# Altium schematic symbol library TI Power Management DC-DC Controller (External Switch).SchLib: 349 symbols (part 2 of 26)
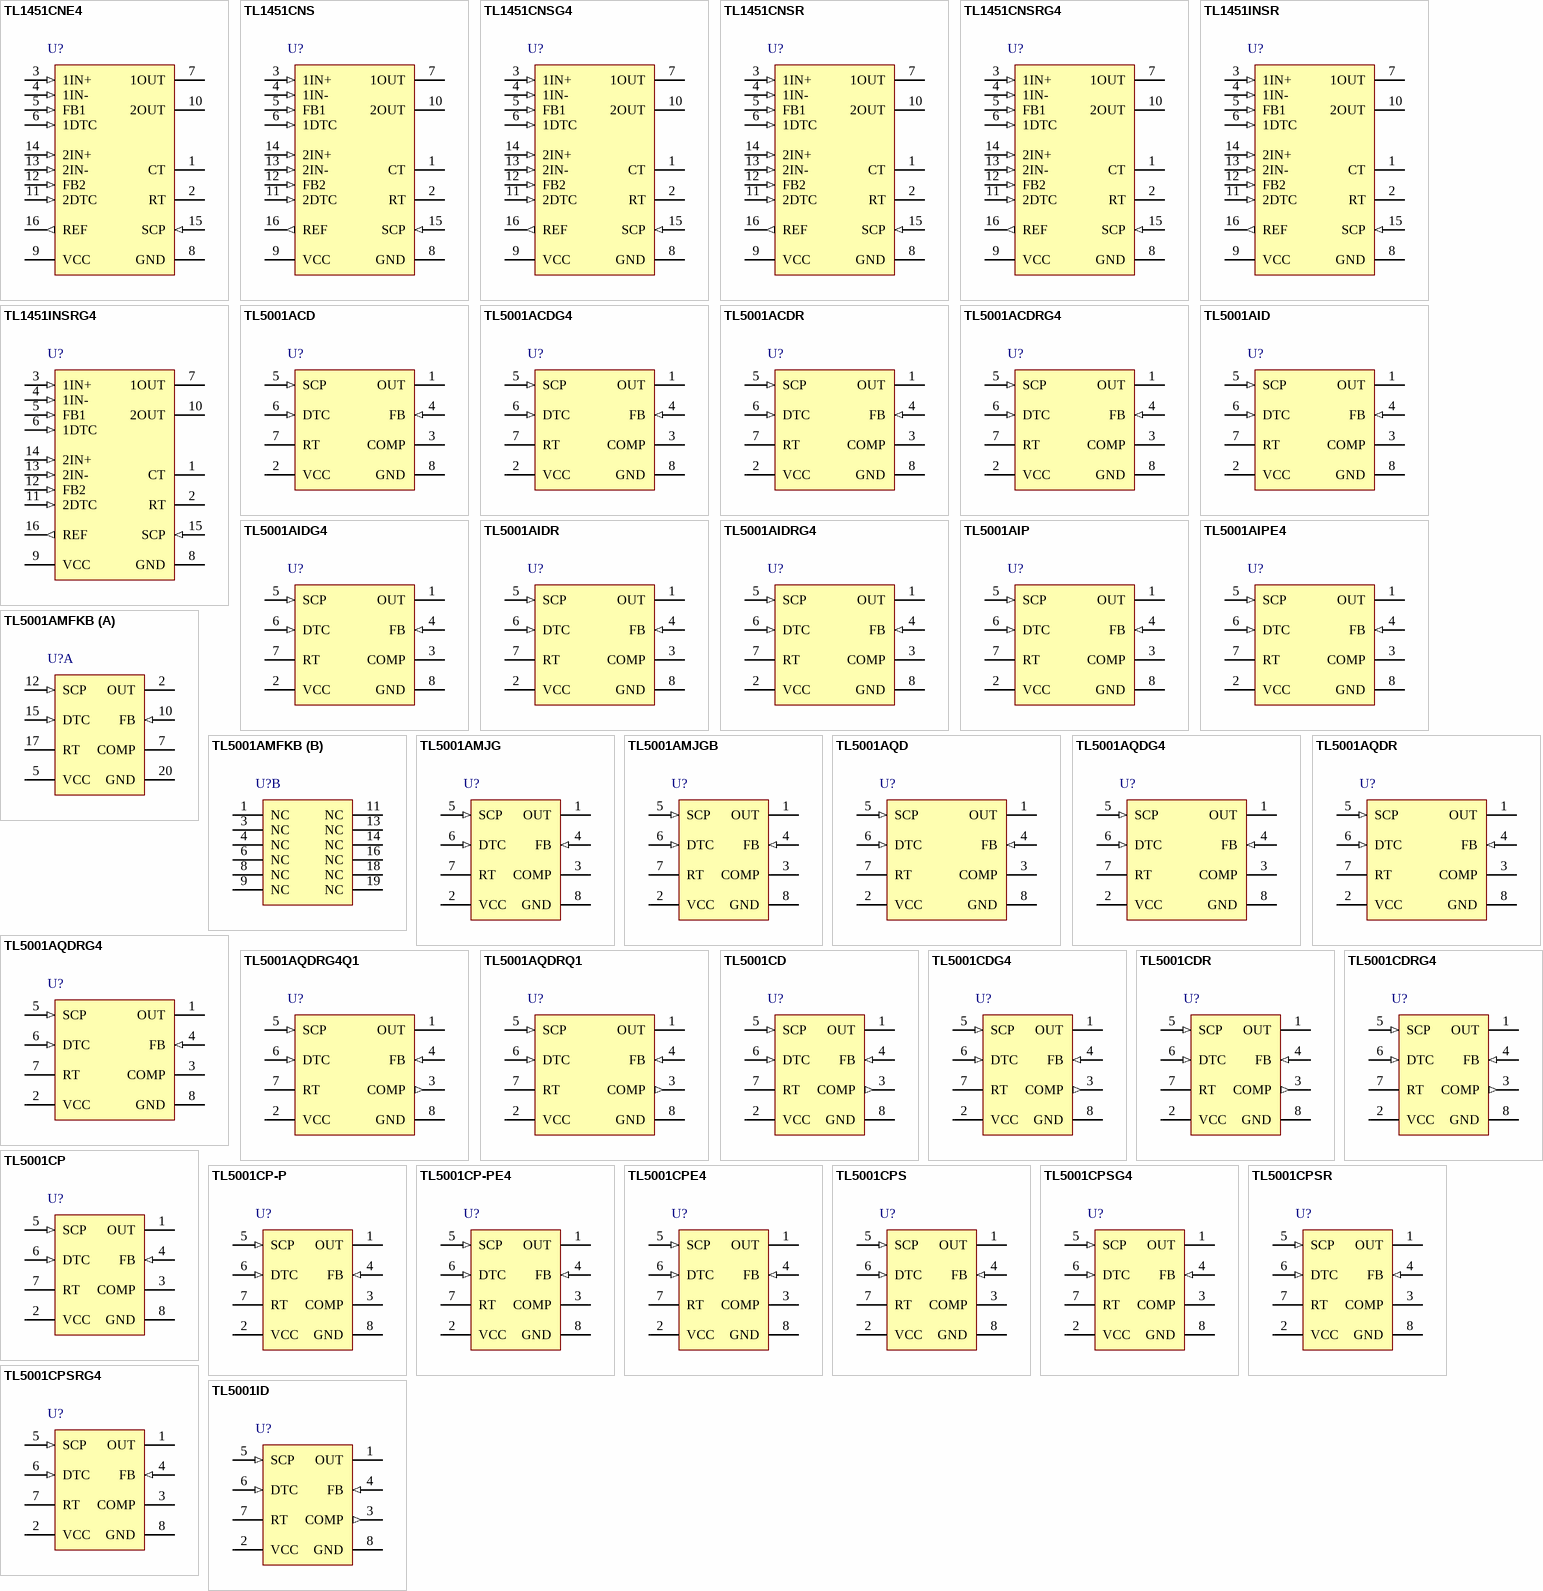
[diagram p15: symbols TL1451CNE4 to TL5001ID]

## TL1451INSR
designator U?
Dual Pulse-Width-Modulation Control Circuit, 16-pin SO (NS), Green (RoHS & no Sb/Br); Manufacturer: Texas Instruments; PartNumber: TL1451INSR; SubFamily: Multiple-Output Switching Controller; DatasheetVersion: SLVS024E; PackageVersion: revC, Mar-2003; PackageReference: NS16; PackageDescription: 16-Pin Plastic Small Outline Package, 10.2 x 5.3 mm, Pitch 1.27 mm Pitch; Supplier 1: Digi-Key; Supplier Part Number 1: TL1451INSR-ND; Eco-Plan: Green (RoHS & no Sb/Br); Mounting Technology: Surface Mount; ComponentLink1Description: Datasheet; ComponentLink1URL: http://www.ti.com/general/docs/lit/getliterature.tsp?genericPartNumber=TL1451&fileType=pdf; ComponentLink2Description: Package Specification; ComponentLink2URL: http://www.ti.com/litv/pdf/msop002a
footprint NS16_N (SOP, 16-Leads, Body 10.2x5.3mm, Pitch 1.27mm, IPC Medium Density)
footprint NS16_L (SOP, 16-Leads, Body 10.2x5.3mm, Pitch 1.27mm, IPC High Density)
footprint NS16_M (SOP, 16-Leads, Body 10.2x5.3mm, Pitch 1.27mm, IPC Low Density)
pins: 1 CT, 2 RT, 3 1IN+ (in), 4 1IN- (in), 5 FB1 (in), 6 1DTC (in), 7 1OUT (oc), 8 GND (power), 9 VCC (power), 10 2OUT (oc), 11 2DTC (in), 12 FB2 (in), 13 2IN- (in), 14 2IN+ (in), 15 SCP (in), 16 REF (out)

## TL1451INSRG4
designator U?
Dual Pulse-Width-Modulation Control Circuit, 16-pin SO (NS), Green (RoHS & no Sb/Br); Manufacturer: Texas Instruments; PartNumber: TL1451INSRG4; SubFamily: Multiple-Output Switching Controller; DatasheetVersion: SLVS024E; PackageVersion: revC, Mar-2003; PackageReference: NS16; PackageDescription: 16-Pin Plastic Small Outline Package, 10.2 x 5.3 mm, Pitch 1.27 mm Pitch; Supplier 1: Digi-Key; Supplier Part Number 1: TL1451INSRG4-ND; Eco-Plan: Green (RoHS & no Sb/Br); Mounting Technology: Surface Mount; ComponentLink1Description: Datasheet; ComponentLink1URL: http://www.ti.com/general/docs/lit/getliterature.tsp?genericPartNumber=TL1451&fileType=pdf; ComponentLink2Description: Package Specification; ComponentLink2URL: http://www.ti.com/litv/pdf/msop002a
footprint NS16_N (SOP, 16-Leads, Body 10.2x5.3mm, Pitch 1.27mm, IPC Medium Density)
footprint NS16_L (SOP, 16-Leads, Body 10.2x5.3mm, Pitch 1.27mm, IPC High Density)
footprint NS16_M (SOP, 16-Leads, Body 10.2x5.3mm, Pitch 1.27mm, IPC Low Density)
pins: 1 CT, 2 RT, 3 1IN+ (in), 4 1IN- (in), 5 FB1 (in), 6 1DTC (in), 7 1OUT (oc), 8 GND (power), 9 VCC (power), 10 2OUT (oc), 11 2DTC (in), 12 FB2 (in), 13 2IN- (in), 14 2IN+ (in), 15 SCP (in), 16 REF (out)

## TL5001ACD
designator U?
PWM Controller with Wide Input Voltage Range, 100 % Duty Cycle, 3.6 to 40 V, -20 to 85 degC, 8-pin SOIC (D), Green (RoHS & no Sb/Br); Manufacturer: Texas Instruments; PartNumber: TL5001ACD; Duty Cycle(Max)(%): 100; Iout(Max)(A): 3; Regulated Outputs(#): 1; SubFamily: Buck-Boost, Inverting Switching Controller; Switching Frequency(Max)(kHz): 400; Synchronous Rectification: TRUE; Topology: Buck, Boost, Flyback"; Vin(Max)(V): 40; Vin(Min)(V): 3.6; Vout(Max)(V): 50; DatasheetVersion: SLVS084F; PackageVersion: revM, Jun-2011; PackageReference: D8; PackageDescription: 8-Pin Plastic Small Outline Integrated Circuit, 4.9 x 3.9 mm, Pitch 1.27 mm Pitch; Supplier 1: Digi-Key; Supplier Part Number 1: 296-2472-5-ND; Eco-Plan: Green (RoHS & no Sb/Br); Vout(Min)(V): 1; Mounting Technology: Surface Mount; Code_JEDEC: MS-012AA; ComponentLink1Description: Datasheet; ComponentLink1URL: http://www.ti.com/general/docs/lit/getliterature.tsp?genericPartNumber=TL5001A&fileType=pdf; ComponentLink2Description: Package Specification; ComponentLink2URL: http://www.ti.com/litv/pdf/msoi002j
footprint D8_N (SOIC, 8-Leads, Body 4.9x3.9mm, Pitch 1.27mm, IPC Medium Density)
footprint D8_L (SOIC, 8-Leads, Body 4.9x3.9mm, Pitch 1.27mm, IPC High Density)
footprint D8_M (SOIC, 8-Leads, Body 4.9x3.9mm, Pitch 1.27mm, IPC Low Density)
pins: 1 OUT (oc), 2 VCC (power), 3 COMP, 4 FB (in), 5 SCP (in), 6 DTC (in), 7 RT, 8 GND (power)

## TL5001ACDG4
designator U?
PWM Controller with Wide Input Voltage Range, 100 % Duty Cycle, 3.6 to 40 V, -20 to 85 degC, 8-pin SOIC (D), Green (RoHS & no Sb/Br); Manufacturer: Texas Instruments; PartNumber: TL5001ACDG4; Duty Cycle(Max)(%): 100; Iout(Max)(A): 3; Regulated Outputs(#): 1; SubFamily: Buck-Boost, Inverting Switching Controller; Switching Frequency(Max)(kHz): 400; Synchronous Rectification: TRUE; Topology: Buck, Boost, Flyback"; Vin(Max)(V): 40; Vin(Min)(V): 3.6; Vout(Max)(V): 50; DatasheetVersion: SLVS084F; PackageVersion: revM, Jun-2011; PackageReference: D8; PackageDescription: 8-Pin Plastic Small Outline Integrated Circuit, 4.9 x 3.9 mm, Pitch 1.27 mm Pitch; Supplier 1: Digi-Key; Supplier Part Number 1: TL5001ACDG4-ND; Eco-Plan: Green (RoHS & no Sb/Br); Vout(Min)(V): 1; Mounting Technology: Surface Mount; Code_JEDEC: MS-012AA; ComponentLink1Description: Datasheet; ComponentLink1URL: http://www.ti.com/general/docs/lit/getliterature.tsp?genericPartNumber=TL5001A&fileType=pdf; ComponentLink2Description: Package Specification; ComponentLink2URL: http://www.ti.com/litv/pdf/msoi002j
footprint D8_N (SOIC, 8-Leads, Body 4.9x3.9mm, Pitch 1.27mm, IPC Medium Density)
footprint D8_L (SOIC, 8-Leads, Body 4.9x3.9mm, Pitch 1.27mm, IPC High Density)
footprint D8_M (SOIC, 8-Leads, Body 4.9x3.9mm, Pitch 1.27mm, IPC Low Density)
pins: 1 OUT (oc), 2 VCC (power), 3 COMP, 4 FB (in), 5 SCP (in), 6 DTC (in), 7 RT, 8 GND (power)

## TL5001ACDR
designator U?
PWM Controller with Wide Input Voltage Range, 100 % Duty Cycle, 3.6 to 40 V, -20 to 85 degC, 8-pin SOIC (D), Green (RoHS & no Sb/Br); Manufacturer: Texas Instruments; PartNumber: TL5001ACDR; Duty Cycle(Max)(%): 100; Iout(Max)(A): 3; Regulated Outputs(#): 1; SubFamily: Buck-Boost, Inverting Switching Controller; Switching Frequency(Max)(kHz): 400; Synchronous Rectification: TRUE; Topology: Buck, Boost, Flyback"; Vin(Max)(V): 40; Vin(Min)(V): 3.6; Vout(Max)(V): 50; DatasheetVersion: SLVS084F; PackageVersion: revM, Jun-2011; PackageReference: D8; PackageDescription: 8-Pin Plastic Small Outline Integrated Circuit, 4.9 x 3.9 mm, Pitch 1.27 mm Pitch; Supplier 1: Digi-Key; Supplier Part Number 1: 296-2472-2-ND; Eco-Plan: Green (RoHS & no Sb/Br); Vout(Min)(V): 1; Mounting Technology: Surface Mount; Code_JEDEC: MS-012AA; ComponentLink1Description: Datasheet; ComponentLink1URL: http://www.ti.com/general/docs/lit/getliterature.tsp?genericPartNumber=TL5001A&fileType=pdf; ComponentLink2Description: Package Specification; ComponentLink2URL: http://www.ti.com/litv/pdf/msoi002j
footprint D8_N (SOIC, 8-Leads, Body 4.9x3.9mm, Pitch 1.27mm, IPC Medium Density)
footprint D8_L (SOIC, 8-Leads, Body 4.9x3.9mm, Pitch 1.27mm, IPC High Density)
footprint D8_M (SOIC, 8-Leads, Body 4.9x3.9mm, Pitch 1.27mm, IPC Low Density)
pins: 1 OUT (oc), 2 VCC (power), 3 COMP, 4 FB (in), 5 SCP (in), 6 DTC (in), 7 RT, 8 GND (power)

## TL5001ACDRG4
designator U?
PWM Controller with Wide Input Voltage Range, 100 % Duty Cycle, 3.6 to 40 V, -20 to 85 degC, 8-pin SOIC (D), Green (RoHS & no Sb/Br); Manufacturer: Texas Instruments; PartNumber: TL5001ACDRG4; Duty Cycle(Max)(%): 100; Iout(Max)(A): 3; Regulated Outputs(#): 1; SubFamily: Buck-Boost, Inverting Switching Controller; Switching Frequency(Max)(kHz): 400; Synchronous Rectification: TRUE; Topology: Buck, Boost, Flyback"; Vin(Max)(V): 40; Vin(Min)(V): 3.6; Vout(Max)(V): 50; DatasheetVersion: SLVS084F; PackageVersion: revM, Jun-2011; PackageReference: D8; PackageDescription: 8-Pin Plastic Small Outline Integrated Circuit, 4.9 x 3.9 mm, Pitch 1.27 mm Pitch; Supplier 1: Digi-Key; Supplier Part Number 1: TL5001ACDRG4-ND; Eco-Plan: Green (RoHS & no Sb/Br); Vout(Min)(V): 1; Mounting Technology: Surface Mount; Code_JEDEC: MS-012AA; ComponentLink1Description: Datasheet; ComponentLink1URL: http://www.ti.com/general/docs/lit/getliterature.tsp?genericPartNumber=TL5001A&fileType=pdf; ComponentLink2Description: Package Specification; ComponentLink2URL: http://www.ti.com/litv/pdf/msoi002j
footprint D8_N (SOIC, 8-Leads, Body 4.9x3.9mm, Pitch 1.27mm, IPC Medium Density)
footprint D8_L (SOIC, 8-Leads, Body 4.9x3.9mm, Pitch 1.27mm, IPC High Density)
footprint D8_M (SOIC, 8-Leads, Body 4.9x3.9mm, Pitch 1.27mm, IPC Low Density)
pins: 1 OUT (oc), 2 VCC (power), 3 COMP, 4 FB (in), 5 SCP (in), 6 DTC (in), 7 RT, 8 GND (power)

## TL5001AID
designator U?
PWM Controller with Wide Input Voltage Range, 100 % Duty Cycle, 3.6 to 40 V, -40 to 85 degC, 8-pin SOIC (D), Green (RoHS & no Sb/Br); Manufacturer: Texas Instruments; PartNumber: TL5001AID; Duty Cycle(Max)(%): 100; Iout(Max)(A): 3; Regulated Outputs(#): 1; SubFamily: Buck-Boost, Inverting Switching Controller; Switching Frequency(Max)(kHz): 400; Synchronous Rectification: TRUE; Topology: Buck, Boost, Flyback; Vin(Max)(V): 40; Vin(Min)(V): 3.6; Vout(Max)(V): 50; DatasheetVersion: SLVS084F; PackageVersion: revM, Jun-2011; PackageReference: D8; PackageDescription: 8-Pin Plastic Small Outline Integrated Circuit, 4.9 x 3.9 mm, Pitch 1.27 mm Pitch; Supplier 1: Digi-Key; Supplier Part Number 1: TL5001AID-ND; Eco-Plan: Green (RoHS & no Sb/Br); Vout(Min)(V): 1; Mounting Technology: Surface Mount; Code_JEDEC: MS-012AA; ComponentLink1Description: Datasheet; ComponentLink1URL: http://www.ti.com/general/docs/lit/getliterature.tsp?genericPartNumber=TL5001A&fileType=pdf; ComponentLink2Description: Package Specification; ComponentLink2URL: http://www.ti.com/litv/pdf/msoi002j
footprint D8_N (SOIC, 8-Leads, Body 4.9x3.9mm, Pitch 1.27mm, IPC Medium Density)
footprint D8_L (SOIC, 8-Leads, Body 4.9x3.9mm, Pitch 1.27mm, IPC High Density)
footprint D8_M (SOIC, 8-Leads, Body 4.9x3.9mm, Pitch 1.27mm, IPC Low Density)
pins: 1 OUT (oc), 2 VCC (power), 3 COMP, 4 FB (in), 5 SCP (in), 6 DTC (in), 7 RT, 8 GND (power)

## TL5001AIDG4
designator U?
PWM Controller with Wide Input Voltage Range, 100 % Duty Cycle, 3.6 to 40 V, -40 to 85 degC, 8-pin SOIC (D), Green (RoHS & no Sb/Br); Manufacturer: Texas Instruments; PartNumber: TL5001AIDG4; Duty Cycle(Max)(%): 100; Iout(Max)(A): 3; Regulated Outputs(#): 1; SubFamily: Buck-Boost, Inverting Switching Controller; Switching Frequency(Max)(kHz): 400; Synchronous Rectification: TRUE; Topology: Buck, Boost, Flyback; Vin(Max)(V): 40; Vin(Min)(V): 3.6; Vout(Max)(V): 50; DatasheetVersion: SLVS084F; PackageVersion: revM, Jun-2011; PackageReference: D8; PackageDescription: 8-Pin Plastic Small Outline Integrated Circuit, 4.9 x 3.9 mm, Pitch 1.27 mm Pitch; Supplier 1: Digi-Key; Supplier Part Number 1: TL5001AIDG4-ND; Eco-Plan: Green (RoHS & no Sb/Br); Vout(Min)(V): 1; Mounting Technology: Surface Mount; Code_JEDEC: MS-012AA; ComponentLink1Description: Datasheet; ComponentLink1URL: http://www.ti.com/general/docs/lit/getliterature.tsp?genericPartNumber=TL5001A&fileType=pdf; ComponentLink2Description: Package Specification; ComponentLink2URL: http://www.ti.com/litv/pdf/msoi002j
footprint D8_N (SOIC, 8-Leads, Body 4.9x3.9mm, Pitch 1.27mm, IPC Medium Density)
footprint D8_L (SOIC, 8-Leads, Body 4.9x3.9mm, Pitch 1.27mm, IPC High Density)
footprint D8_M (SOIC, 8-Leads, Body 4.9x3.9mm, Pitch 1.27mm, IPC Low Density)
pins: 1 OUT (oc), 2 VCC (power), 3 COMP, 4 FB (in), 5 SCP (in), 6 DTC (in), 7 RT, 8 GND (power)

## TL5001AIDR
designator U?
PWM Controller with Wide Input Voltage Range, 100 % Duty Cycle, 3.6 to 40 V, -40 to 85 degC, 8-pin SOIC (D), Green (RoHS & no Sb/Br); Manufacturer: Texas Instruments; PartNumber: TL5001AIDR; Duty Cycle(Max)(%): 100; Iout(Max)(A): 3; Regulated Outputs(#): 1; SubFamily: Buck-Boost, Inverting Switching Controller; Switching Frequency(Max)(kHz): 400; Synchronous Rectification: TRUE; Topology: Buck, Boost, Flyback; Vin(Max)(V): 40; Vin(Min)(V): 3.6; Vout(Max)(V): 50; DatasheetVersion: SLVS084F; PackageVersion: revM, Jun-2011; PackageReference: D8; PackageDescription: 8-Pin Plastic Small Outline Integrated Circuit, 4.9 x 3.9 mm, Pitch 1.27 mm Pitch; Supplier 1: Digi-Key; Supplier Part Number 1: TL5001AIDR-ND; Eco-Plan: Green (RoHS & no Sb/Br); Vout(Min)(V): 1; Mounting Technology: Surface Mount; Code_JEDEC: MS-012AA; ComponentLink1Description: Datasheet; ComponentLink1URL: http://www.ti.com/general/docs/lit/getliterature.tsp?genericPartNumber=TL5001A&fileType=pdf; ComponentLink2Description: Package Specification; ComponentLink2URL: http://www.ti.com/litv/pdf/msoi002j
footprint D8_N (SOIC, 8-Leads, Body 4.9x3.9mm, Pitch 1.27mm, IPC Medium Density)
footprint D8_L (SOIC, 8-Leads, Body 4.9x3.9mm, Pitch 1.27mm, IPC High Density)
footprint D8_M (SOIC, 8-Leads, Body 4.9x3.9mm, Pitch 1.27mm, IPC Low Density)
pins: 1 OUT (oc), 2 VCC (power), 3 COMP, 4 FB (in), 5 SCP (in), 6 DTC (in), 7 RT, 8 GND (power)

## TL5001AIDRG4
designator U?
PWM Controller with Wide Input Voltage Range, 100 % Duty Cycle, 3.6 to 40 V, -40 to 85 degC, 8-pin SOIC (D), Green (RoHS & no Sb/Br); Manufacturer: Texas Instruments; PartNumber: TL5001AIDRG4; Duty Cycle(Max)(%): 100; Iout(Max)(A): 3; Regulated Outputs(#): 1; SubFamily: Buck-Boost, Inverting Switching Controller; Switching Frequency(Max)(kHz): 400; Synchronous Rectification: TRUE; Topology: Buck, Boost, Flyback; Vin(Max)(V): 40; Vin(Min)(V): 3.6; Vout(Max)(V): 50; DatasheetVersion: SLVS084F; PackageVersion: revM, Jun-2011; PackageReference: D8; PackageDescription: 8-Pin Plastic Small Outline Integrated Circuit, 4.9 x 3.9 mm, Pitch 1.27 mm Pitch; Supplier 1: Digi-Key; Supplier Part Number 1: TL5001AIDRG4-ND; Eco-Plan: Green (RoHS & no Sb/Br); Vout(Min)(V): 1; Mounting Technology: Surface Mount; Code_JEDEC: MS-012AA; ComponentLink1Description: Datasheet; ComponentLink1URL: http://www.ti.com/general/docs/lit/getliterature.tsp?genericPartNumber=TL5001A&fileType=pdf; ComponentLink2Description: Package Specification; ComponentLink2URL: http://www.ti.com/litv/pdf/msoi002j
footprint D8_N (SOIC, 8-Leads, Body 4.9x3.9mm, Pitch 1.27mm, IPC Medium Density)
footprint D8_L (SOIC, 8-Leads, Body 4.9x3.9mm, Pitch 1.27mm, IPC High Density)
footprint D8_M (SOIC, 8-Leads, Body 4.9x3.9mm, Pitch 1.27mm, IPC Low Density)
pins: 1 OUT (oc), 2 VCC (power), 3 COMP, 4 FB (in), 5 SCP (in), 6 DTC (in), 7 RT, 8 GND (power)

## TL5001AIP
designator U?
PWM Controller with Wide Input Voltage Range, 100 % Duty Cycle, 3.6 to 40 V, -40 to 85 degC, 8-pin PDIP (P), Pb-Free (RoHS); Manufacturer: Texas Instruments; PartNumber: TL5001AIP; Duty Cycle(Max)(%): 100; Iout(Max)(A): 3; Regulated Outputs(#): 1; SubFamily: Buck-Boost, Inverting Switching Controller; Switching Frequency(Max)(kHz): 400; Synchronous Rectification: TRUE; Topology: Buck, Boost, Flyback; Vin(Max)(V): 40; Vin(Min)(V): 3.6; Vout(Max)(V): 50; DatasheetVersion: SLVS084F; PackageVersion: revE, Apr-2010; PackageReference: P8; PackageDescription: 8-Pin Plastic Dual-In-Line Package, Row Spacing 7.62 mm, Pitch 2.54 mm; Supplier 1: Digi-Key; Supplier Part Number 1: 296-10203-5-ND; Eco-Plan: Pb-Free (RoHS); Vout(Min)(V): 1; Mounting Technology: Through Hole; Code_JEDEC: MS-001-BA; ComponentLink1Description: Datasheet; ComponentLink1URL: http://www.ti.com/general/docs/lit/getliterature.tsp?genericPartNumber=TL5001A&fileType=pdf; ComponentLink2Description: Package Specification; ComponentLink2URL: http://www.ti.com/lit/ml/mpdi001b/mpdi001b.pdf
footprint P8 (DIP, 8-Leads, Row Spacing 7.62mm, Pitch 2.54mm, Body 9.6x6.4mm)
pins: 1 OUT (oc), 2 VCC (power), 3 COMP, 4 FB (in), 5 SCP (in), 6 DTC (in), 7 RT, 8 GND (power)

## TL5001AIPE4
designator U?
PWM Controller with Wide Input Voltage Range, 100 % Duty Cycle, 3.6 to 40 V, -40 to 85 degC, 8-pin PDIP (P), Pb-Free (RoHS); Manufacturer: Texas Instruments; PartNumber: TL5001AIPE4; Duty Cycle(Max)(%): 100; Iout(Max)(A): 3; Regulated Outputs(#): 1; SubFamily: Buck-Boost, Inverting Switching Controller; Switching Frequency(Max)(kHz): 400; Synchronous Rectification: TRUE; Topology: Buck, Boost, Flyback; Vin(Max)(V): 40; Vin(Min)(V): 3.6; Vout(Max)(V): 50; DatasheetVersion: SLVS084F; PackageVersion: revE, Apr-2010; PackageReference: P8; PackageDescription: 8-Pin Plastic Dual-In-Line Package, Row Spacing 7.62 mm, Pitch 2.54 mm; Supplier 1: Digi-Key; Supplier Part Number 1: TL5001AIPE4-ND; Eco-Plan: Pb-Free (RoHS); Vout(Min)(V): 1; Mounting Technology: Through Hole; Code_JEDEC: MS-001-BA; ComponentLink1Description: Datasheet; ComponentLink1URL: http://www.ti.com/general/docs/lit/getliterature.tsp?genericPartNumber=TL5001A&fileType=pdf; ComponentLink2Description: Package Specification; ComponentLink2URL: http://www.ti.com/lit/ml/mpdi001b/mpdi001b.pdf
footprint P8 (DIP, 8-Leads, Row Spacing 7.62mm, Pitch 2.54mm, Body 9.6x6.4mm)
pins: 1 OUT (oc), 2 VCC (power), 3 COMP, 4 FB (in), 5 SCP (in), 6 DTC (in), 7 RT, 8 GND (power)

## TL5001AMFKB
designator U?
PWM Controller with Wide Input Voltage Range, 100 % Duty Cycle, 3.6 to 40 V, -55 to 125 degC, 20-pin LCCC (FK); Manufacturer: Texas Instruments; PartNumber: TL5001AMFKB; Duty Cycle(Max)(%): 100; Iout(Max)(A): 3; Regulated Outputs(#): 1; SubFamily: Buck-Boost, Inverting Switching Controller; Switching Frequency(Max)(kHz): 500; Synchronous Rectification: TRUE; Topology: Buck, Boost; Vin(Max)(V): 40; Vin(Min)(V): 3.6; Vout(Max)(V): 50; DatasheetVersion: SLVS084F; PackageVersion: revD, Jan-2011; PackageReference: FK20; PackageDescription: 20-Pin Leadless Ceramic Chip Carrier, 1.27 mm Pitch; Vout(Min)(V): 1; Mounting Technology: Surface Mount; Code_JEDEC: MS-004; ComponentLink1Description: Datasheet; ComponentLink1URL: http://www.ti.com/general/docs/lit/getliterature.tsp?genericPartNumber=TL5001AM&fileType=pdf; ComponentLink2Description: Package Specification; ComponentLink2URL: http://www.ti.com/litv/pdf/mlcc006d
footprint FK20_N (Leadless Chip Carrier, 20-Leads, Body 8.9x8.9mm, Pitch 1.27mm, IPC Medium Density)
footprint FK20_L (Leadless Chip Carrier, 20-Leads, Body 8.9x8.9mm, Pitch 1.27mm, IPC High Density)
footprint FK20_M (Leadless Chip Carrier, 20-Leads, Body 8.9x8.9mm, Pitch 1.27mm, IPC Low Density)
part A pins: 2 OUT (oc), 5 VCC (power), 7 COMP, 10 FB (in), 12 SCP (in), 15 DTC (in), 17 RT, 20 GND (power)
part B pins: 1 NC, 3 NC, 4 NC, 6 NC, 8 NC, 9 NC, 11 NC, 13 NC, 14 NC, 16 NC, 18 NC, 19 NC

## TL5001AMJG
designator U?
PWM Controller with Wide Input Voltage Range, 100 % Duty Cycle, 3.6 to 40 V, -55 to 125 degC, 8-pin CDIP (JG); Manufacturer: Texas Instruments; PartNumber: TL5001AMJG; Duty Cycle(Max)(%): 100; Iout(Max)(A): 3; Regulated Outputs(#): 1; SubFamily: Buck-Boost, Inverting Switching Controller; Switching Frequency(Max)(kHz): 500; Synchronous Rectification: TRUE; Topology: Buck, Boost; Vin(Max)(V): 40; Vin(Min)(V): 3.6; Vout(Max)(V): 50; DatasheetVersion: SLVS084F; PackageVersion: revC, Aug-1996; PackageReference: JG8; PackageDescription: 8-Pin Ceramic Dual-In-Line Package, Row Spacing 7.62 mm, Pitch 2.54 mm; Vout(Min)(V): 1; Mounting Technology: Through Hole; ComponentLink1Description: Datasheet; ComponentLink1URL: http://www.ti.com/general/docs/lit/getliterature.tsp?genericPartNumber=TL5001AM&fileType=pdf; ComponentLink2Description: Package Specification; ComponentLink2URL: http://www.ti.com/litv/pdf/mcer001a
footprint JG8 (DIP, 8-Leads, Row Spacing 7.62mm, Pitch 2.54mm, Body 9.6x6.7mm)
pins: 1 OUT (oc), 2 VCC (power), 3 COMP, 4 FB (in), 5 SCP (in), 6 DTC (in), 7 RT, 8 GND (power)

## TL5001AMJGB
designator U?
PWM Controller with Wide Input Voltage Range, 100 % Duty Cycle, 3.6 to 40 V, -55 to 125 degC, 8-pin CDIP (JG); Manufacturer: Texas Instruments; PartNumber: TL5001AMJGB; Duty Cycle(Max)(%): 100; Iout(Max)(A): 3; Regulated Outputs(#): 1; SubFamily: Buck-Boost, Inverting Switching Controller; Switching Frequency(Max)(kHz): 500; Synchronous Rectification: TRUE; Topology: Buck, Boost; Vin(Max)(V): 40; Vin(Min)(V): 3.6; Vout(Max)(V): 50; DatasheetVersion: SLVS084F; PackageVersion: revC, Aug-1996; PackageReference: JG8; PackageDescription: 8-Pin Ceramic Dual-In-Line Package, Row Spacing 7.62 mm, Pitch 2.54 mm; Vout(Min)(V): 1; Mounting Technology: Through Hole; ComponentLink1Description: Datasheet; ComponentLink1URL: http://www.ti.com/general/docs/lit/getliterature.tsp?genericPartNumber=TL5001AM&fileType=pdf; ComponentLink2Description: Package Specification; ComponentLink2URL: http://www.ti.com/litv/pdf/mcer001a
footprint JG8 (DIP, 8-Leads, Row Spacing 7.62mm, Pitch 2.54mm, Body 9.6x6.7mm)
pins: 1 OUT (oc), 2 VCC (power), 3 COMP, 4 FB (in), 5 SCP (in), 6 DTC (in), 7 RT, 8 GND (power)

## TL5001AQD
designator U?
PWM Controller with Wide Input Voltage Range, 100 % Duty Cycle, 3.6 to 40 V, -40 to 125 degC, 8-pin SOIC (D), Green (RoHS & no Sb/Br); Manufacturer: Texas Instruments; PartNumber: TL5001AQD; Duty Cycle(Max)(%): 100; Iout(Max)(A): 3; Regulated Outputs(#): 1; SubFamily: Buck-Boost, Inverting Switching Controller; Switching Frequency(Max)(kHz): 400; Synchronous Rectification: TRUE; Topology: Buck, Boost, Flyback; Vin(Max)(V): 40; Vin(Min)(V): 3.6; Vout(Max)(V): 50; DatasheetVersion: SLVS084F; PackageVersion: revM, Jun-2011; PackageReference: D8; PackageDescription: 8-Pin Plastic Small Outline Integrated Circuit, 4.9 x 3.9 mm, Pitch 1.27 mm Pitch; Supplier 1: Digi-Key; Supplier Part Number 1: 296-10204-5-ND; Eco-Plan: Green (RoHS & no Sb/Br); Vout(Min)(V): 1; Mounting Technology: Surface Mount; Code_JEDEC: MS-012AA; ComponentLink1Description: Datasheet; ComponentLink1URL: http://www.ti.com/general/docs/lit/getliterature.tsp?genericPartNumber=TL5001A&fileType=pdf; ComponentLink2Description: Package Specification; ComponentLink2URL: http://www.ti.com/litv/pdf/msoi002j
footprint D8_N (SOIC, 8-Leads, Body 4.9x3.9mm, Pitch 1.27mm, IPC Medium Density)
footprint D8_L (SOIC, 8-Leads, Body 4.9x3.9mm, Pitch 1.27mm, IPC High Density)
footprint D8_M (SOIC, 8-Leads, Body 4.9x3.9mm, Pitch 1.27mm, IPC Low Density)
pins: 1 OUT (oc), 2 VCC (power), 3 COMP, 4 FB (in), 5 SCP (in), 6 DTC (in), 7 RT, 8 GND (power)

## TL5001AQDG4
designator U?
PWM Controller with Wide Input Voltage Range, 100 % Duty Cycle, 3.6 to 40 V, 8-pin SOIC (D), Green (RoHS & no Sb/Br); Manufacturer: Texas Instruments; PartNumber: TL5001AQDG4; Duty Cycle(Max)(%): 100; Iout(Max)(A): 3; Regulated Outputs(#): 1; SubFamily: Buck-Boost, Inverting Switching Controller; Switching Frequency(Max)(kHz): 400; Synchronous Rectification: TRUE; Topology: Buck, Boost, Flyback; Vin(Max)(V): 40; Vin(Min)(V): 3.6; Vout(Max)(V): 50; DatasheetVersion: SLVS084F; PackageVersion: revM, Jun-2011; PackageReference: D8; PackageDescription: 8-Pin Plastic Small Outline Integrated Circuit, 4.9 x 3.9 mm, Pitch 1.27 mm Pitch; Supplier 1: Digi-Key; Supplier Part Number 1: TL5001AQDG4-ND; Eco-Plan: Green (RoHS & no Sb/Br); Vout(Min)(V): 1; Mounting Technology: Surface Mount; Code_JEDEC: MS-012AA; ComponentLink1Description: Datasheet; ComponentLink1URL: http://www.ti.com/general/docs/lit/getliterature.tsp?genericPartNumber=TL5001A&fileType=pdf; ComponentLink2Description: Package Specification; ComponentLink2URL: http://www.ti.com/litv/pdf/msoi002j
footprint D8_N (SOIC, 8-Leads, Body 4.9x3.9mm, Pitch 1.27mm, IPC Medium Density)
footprint D8_L (SOIC, 8-Leads, Body 4.9x3.9mm, Pitch 1.27mm, IPC High Density)
footprint D8_M (SOIC, 8-Leads, Body 4.9x3.9mm, Pitch 1.27mm, IPC Low Density)
pins: 1 OUT (oc), 2 VCC (power), 3 COMP, 4 FB (in), 5 SCP (in), 6 DTC (in), 7 RT, 8 GND (power)

## TL5001AQDR
designator U?
PWM Controller with Wide Input Voltage Range, 100 % Duty Cycle, 3.6 to 40 V, -40 to 125 degC, 8-pin SOIC (D), Green (RoHS & no Sb/Br); Manufacturer: Texas Instruments; PartNumber: TL5001AQDR; Duty Cycle(Max)(%): 100; Eco-Plan: TBD; Iout(Max)(A): 3; Regulated Outputs(#): 1; SubFamily: Buck-Boost, Inverting Switching Controller; Switching Frequency(Max)(kHz): 400; Synchronous Rectification: TRUE; Topology: Buck, Boost, Flyback"; Vin(Max)(V): 40; Vin(Min)(V): 3.6; Vout(Max)(V): 50; DatasheetVersion: SLVS084F; PackageVersion: revM, Jun-2011; PackageReference: D8; PackageDescription: 8-Pin Plastic Small Outline Integrated Circuit, 4.9 x 3.9 mm, Pitch 1.27 mm Pitch; Supplier 1: Digi-Key; Supplier Part Number 1: 296-16812-2-ND; Vout(Min)(V): 1; Mounting Technology: Surface Mount; Code_JEDEC: MS-012AA; ComponentLink1Description: Datasheet; ComponentLink1URL: http://www.ti.com/general/docs/lit/getliterature.tsp?genericPartNumber=TL5001A&fileType=pdf; ComponentLink2Description: Package Specification; ComponentLink2URL: http://www.ti.com/litv/pdf/msoi002j
footprint D8_N (SOIC, 8-Leads, Body 4.9x3.9mm, Pitch 1.27mm, IPC Medium Density)
footprint D8_L (SOIC, 8-Leads, Body 4.9x3.9mm, Pitch 1.27mm, IPC High Density)
footprint D8_M (SOIC, 8-Leads, Body 4.9x3.9mm, Pitch 1.27mm, IPC Low Density)
pins: 1 OUT (oc), 2 VCC (power), 3 COMP, 4 FB (in), 5 SCP (in), 6 DTC (in), 7 RT, 8 GND (power)

## TL5001AQDRG4
designator U?
PWM Controller with Wide Input Voltage Range, 100 % Duty Cycle, 3.6 to 40 V, 8-pin SOIC (D), Green (RoHS & no Sb/Br); Manufacturer: Texas Instruments; PartNumber: TL5001AQDRG4; Duty Cycle(Max)(%): 100; Iout(Max)(A): 3; Regulated Outputs(#): 1; SubFamily: Buck-Boost, Inverting Switching Controller; Switching Frequency(Max)(kHz): 400; Synchronous Rectification: TRUE; Topology: Buck, Boost, Flyback"; Vin(Max)(V): 40; Vin(Min)(V): 3.6; Vout(Max)(V): 50; DatasheetVersion: SLVS084F; PackageVersion: revM, Jun-2011; PackageReference: D8; PackageDescription: 8-Pin Plastic Small Outline Integrated Circuit, 4.9 x 3.9 mm, Pitch 1.27 mm Pitch; Supplier 1: Digi-Key; Supplier Part Number 1: 296-29555-2-ND; Eco-Plan: Green (RoHS & no Sb/Br); Vout(Min)(V): 1; Mounting Technology: Surface Mount; Code_JEDEC: MS-012AA; ComponentLink1Description: Datasheet; ComponentLink1URL: http://www.ti.com/general/docs/lit/getliterature.tsp?genericPartNumber=TL5001A&fileType=pdf; ComponentLink2Description: Package Specification; ComponentLink2URL: http://www.ti.com/litv/pdf/msoi002j
footprint D8_N (SOIC, 8-Leads, Body 4.9x3.9mm, Pitch 1.27mm, IPC Medium Density)
footprint D8_L (SOIC, 8-Leads, Body 4.9x3.9mm, Pitch 1.27mm, IPC High Density)
footprint D8_M (SOIC, 8-Leads, Body 4.9x3.9mm, Pitch 1.27mm, IPC Low Density)
pins: 1 OUT (oc), 2 VCC (power), 3 COMP, 4 FB (in), 5 SCP (in), 6 DTC (in), 7 RT, 8 GND (power)

## TL5001AQDRG4Q1
designator U?
Automotive Catalog Pulse-Width-Modulation Control Circuit, 3.6 to 40 V, -40 to 125 degC, 8-pin SOIC (D), Green (RoHS & no Sb/Br); Manufacturer: Texas Instruments; PartNumber: TL5001AQDRG4Q1; Iout(Max)(A): 3; Regulated Outputs(#): 1; SubFamily: Buck-Boost, Inverting Switching Controller; Switching Frequency(Max)(kHz): 400; Topology: Boost, Buck, Flyback; Vin(Max)(V): 40; Vin(Min)(V): 3.6; Vout(Max)(V): 50; DatasheetVersion: SLVS603B; PackageVersion: revM, Jun-2011; PackageReference: D8; PackageDescription: 8-Pin Plastic Small Outline Integrated Circuit, 4.9 x 3.9 mm, Pitch 1.27 mm Pitch; Supplier 1: Digi-Key; Supplier Part Number 1: 296-22068-2-ND; Eco-Plan: Green (RoHS & no Sb/Br); Vout(Min)(V): 1; Mounting Technology: Surface Mount; Code_JEDEC: MS-012AA; ComponentLink1Description: Datasheet; ComponentLink1URL: http://www.ti.com/general/docs/lit/getliterature.tsp?genericPartNumber=TL5001A-Q1&fileType=pdf; ComponentLink2Description: Package Specification; ComponentLink2URL: http://www.ti.com/litv/pdf/msoi002j
footprint D8_N (SOIC, 8-Leads, Body 4.9x3.9mm, Pitch 1.27mm, IPC Medium Density)
footprint D8_L (SOIC, 8-Leads, Body 4.9x3.9mm, Pitch 1.27mm, IPC High Density)
footprint D8_M (SOIC, 8-Leads, Body 4.9x3.9mm, Pitch 1.27mm, IPC Low Density)
pins: 1 OUT (oc), 2 VCC (power), 3 COMP (out), 4 FB (in), 5 SCP (in), 6 DTC (in), 7 RT, 8 GND (power)

## TL5001AQDRQ1
designator U?
Automotive Catalog Pulse-Width-Modulation Control Circuit, 3.6 to 40 V, -40 to 125 degC, 8-pin SOIC (D), Green (RoHS & no Sb/Br); Manufacturer: Texas Instruments; PartNumber: TL5001AQDRQ1; Iout(Max)(A): 3; Regulated Outputs(#): 1; SubFamily: Buck-Boost, Inverting Switching Controller; Switching Frequency(Max)(kHz): 400; Topology: Boost, Buck, Flyback; Vin(Max)(V): 40; Vin(Min)(V): 3.6; Vout(Max)(V): 50; DatasheetVersion: SLVS603B; PackageVersion: revM, Jun-2011; PackageReference: D8; PackageDescription: 8-Pin Plastic Small Outline Integrated Circuit, 4.9 x 3.9 mm, Pitch 1.27 mm Pitch; Supplier 1: Digi-Key; Supplier Part Number 1: 296-20655-2-ND; Eco-Plan: Green (RoHS & no Sb/Br); Vout(Min)(V): 1; Mounting Technology: Surface Mount; Code_JEDEC: MS-012AA; ComponentLink1Description: Datasheet; ComponentLink1URL: http://www.ti.com/general/docs/lit/getliterature.tsp?genericPartNumber=TL5001A-Q1&fileType=pdf; ComponentLink2Description: Package Specification; ComponentLink2URL: http://www.ti.com/litv/pdf/msoi002j
footprint D8_N (SOIC, 8-Leads, Body 4.9x3.9mm, Pitch 1.27mm, IPC Medium Density)
footprint D8_L (SOIC, 8-Leads, Body 4.9x3.9mm, Pitch 1.27mm, IPC High Density)
footprint D8_M (SOIC, 8-Leads, Body 4.9x3.9mm, Pitch 1.27mm, IPC Low Density)
pins: 1 OUT (oc), 2 VCC (power), 3 COMP (out), 4 FB (in), 5 SCP (in), 6 DTC (in), 7 RT, 8 GND (power)

## TL5001CD
designator U?
PWM Controller with Wide Input Range, 3.6 to 40 V, -25 to 85 degC, 8-pin SOIC (D), Green (RoHS & no Sb/Br); Manufacturer: Texas Instruments; PartNumber: TL5001CD; Iout(Max)(A): 3; Regulated Outputs(#): 1; SubFamily: Buck-Boost, Inverting Switching Controller; Switching Frequency(Max)(kHz): 400; Synchronous Rectification: TRUE; Topology: Buck, Boost, Flyback"; Vin(Max)(V): 40; Vin(Min)(V): 3.6; Vout(Max)(V): 50; DatasheetVersion: SLVS084F; PackageVersion: revM, Jun-2011; PackageReference: D8; PackageDescription: 8-Pin Plastic Small Outline Integrated Circuit, 4.9 x 3.9 mm, Pitch 1.27 mm Pitch; Supplier 1: Digi-Key; Supplier Part Number 1: 296-26723-5-ND; Eco-Plan: Green (RoHS & no Sb/Br); Vout(Min)(V): 1; Mounting Technology: Surface Mount; Code_JEDEC: MS-012AA; ComponentLink1Description: Datasheet; ComponentLink1URL: http://www.ti.com/general/docs/lit/getliterature.tsp?genericPartNumber=TL5001&fileType=pdf; ComponentLink2Description: Package Specification; ComponentLink2URL: http://www.ti.com/litv/pdf/msoi002j
footprint D8_N (SOIC, 8-Leads, Body 4.9x3.9mm, Pitch 1.27mm, IPC Medium Density)
footprint D8_L (SOIC, 8-Leads, Body 4.9x3.9mm, Pitch 1.27mm, IPC High Density)
footprint D8_M (SOIC, 8-Leads, Body 4.9x3.9mm, Pitch 1.27mm, IPC Low Density)
pins: 1 OUT (oc), 2 VCC (power), 3 COMP (out), 4 FB (in), 5 SCP (in), 6 DTC (in), 7 RT, 8 GND (power)

## TL5001CDG4
designator U?
PWM Controller with Wide Input Range, 3.6 to 40 V, -25 to 85 degC, 8-pin SOIC (D), Green (RoHS & no Sb/Br); Manufacturer: Texas Instruments; PartNumber: TL5001CDG4; Iout(Max)(A): 3; Regulated Outputs(#): 1; SubFamily: Buck-Boost, Inverting Switching Controller; Switching Frequency(Max)(kHz): 400; Synchronous Rectification: TRUE; Topology: Buck, Boost, Flyback"; Vin(Max)(V): 40; Vin(Min)(V): 3.6; Vout(Max)(V): 50; DatasheetVersion: SLVS084F; PackageVersion: revM, Jun-2011; PackageReference: D8; PackageDescription: 8-Pin Plastic Small Outline Integrated Circuit, 4.9 x 3.9 mm, Pitch 1.27 mm Pitch; Supplier 1: Digi-Key; Supplier Part Number 1: TL5001CDG4-ND; Eco-Plan: Green (RoHS & no Sb/Br); Vout(Min)(V): 1; Mounting Technology: Surface Mount; Code_JEDEC: MS-012AA; ComponentLink1Description: Datasheet; ComponentLink1URL: http://www.ti.com/general/docs/lit/getliterature.tsp?genericPartNumber=TL5001&fileType=pdf; ComponentLink2Description: Package Specification; ComponentLink2URL: http://www.ti.com/litv/pdf/msoi002j
footprint D8_N (SOIC, 8-Leads, Body 4.9x3.9mm, Pitch 1.27mm, IPC Medium Density)
footprint D8_L (SOIC, 8-Leads, Body 4.9x3.9mm, Pitch 1.27mm, IPC High Density)
footprint D8_M (SOIC, 8-Leads, Body 4.9x3.9mm, Pitch 1.27mm, IPC Low Density)
pins: 1 OUT (oc), 2 VCC (power), 3 COMP (out), 4 FB (in), 5 SCP (in), 6 DTC (in), 7 RT, 8 GND (power)

## TL5001CDR
designator U?
PWM Controller with Wide Input Range, 3.6 to 40 V, -25 to 85 degC, 8-pin SOIC (D), Green (RoHS & no Sb/Br); Manufacturer: Texas Instruments; PartNumber: TL5001CDR; Iout(Max)(A): 3; Regulated Outputs(#): 1; SubFamily: Buck-Boost, Inverting Switching Controller; Switching Frequency(Max)(kHz): 400; Synchronous Rectification: TRUE; Topology: Buck, Boost, Flyback"; Vin(Max)(V): 40; Vin(Min)(V): 3.6; Vout(Max)(V): 50; DatasheetVersion: SLVS084F; PackageVersion: revM, Jun-2011; PackageReference: D8; PackageDescription: 8-Pin Plastic Small Outline Integrated Circuit, 4.9 x 3.9 mm, Pitch 1.27 mm Pitch; Supplier 1: Digi-Key; Supplier Part Number 1: 296-1294-2-ND; Eco-Plan: Green (RoHS & no Sb/Br); Vout(Min)(V): 1; Mounting Technology: Surface Mount; Code_JEDEC: MS-012AA; ComponentLink1Description: Datasheet; ComponentLink1URL: http://www.ti.com/general/docs/lit/getliterature.tsp?genericPartNumber=TL5001&fileType=pdf; ComponentLink2Description: Package Specification; ComponentLink2URL: http://www.ti.com/litv/pdf/msoi002j
footprint D8_N (SOIC, 8-Leads, Body 4.9x3.9mm, Pitch 1.27mm, IPC Medium Density)
footprint D8_L (SOIC, 8-Leads, Body 4.9x3.9mm, Pitch 1.27mm, IPC High Density)
footprint D8_M (SOIC, 8-Leads, Body 4.9x3.9mm, Pitch 1.27mm, IPC Low Density)
pins: 1 OUT (oc), 2 VCC (power), 3 COMP (out), 4 FB (in), 5 SCP (in), 6 DTC (in), 7 RT, 8 GND (power)

## TL5001CDRG4
designator U?
PWM Controller with Wide Input Range, 3.6 to 40 V, -25 to 85 degC, 8-pin SOIC (D), Green (RoHS & no Sb/Br); Manufacturer: Texas Instruments; PartNumber: TL5001CDRG4; Iout(Max)(A): 3; Regulated Outputs(#): 1; SubFamily: Buck-Boost, Inverting Switching Controller; Switching Frequency(Max)(kHz): 400; Synchronous Rectification: TRUE; Topology: Buck, Boost, Flyback"; Vin(Max)(V): 40; Vin(Min)(V): 3.6; Vout(Max)(V): 50; DatasheetVersion: SLVS084F; PackageVersion: revM, Jun-2011; PackageReference: D8; PackageDescription: 8-Pin Plastic Small Outline Integrated Circuit, 4.9 x 3.9 mm, Pitch 1.27 mm Pitch; Supplier 1: Digi-Key; Supplier Part Number 1: TL5001CDRG4-ND; Eco-Plan: Green (RoHS & no Sb/Br); Vout(Min)(V): 1; Mounting Technology: Surface Mount; Code_JEDEC: MS-012AA; ComponentLink1Description: Datasheet; ComponentLink1URL: http://www.ti.com/general/docs/lit/getliterature.tsp?genericPartNumber=TL5001&fileType=pdf; ComponentLink2Description: Package Specification; ComponentLink2URL: http://www.ti.com/litv/pdf/msoi002j
footprint D8_N (SOIC, 8-Leads, Body 4.9x3.9mm, Pitch 1.27mm, IPC Medium Density)
footprint D8_L (SOIC, 8-Leads, Body 4.9x3.9mm, Pitch 1.27mm, IPC High Density)
footprint D8_M (SOIC, 8-Leads, Body 4.9x3.9mm, Pitch 1.27mm, IPC Low Density)
pins: 1 OUT (oc), 2 VCC (power), 3 COMP (out), 4 FB (in), 5 SCP (in), 6 DTC (in), 7 RT, 8 GND (power)

## TL5001CP
designator U?
PWM Controller with Wide Input Range, 3.6 to 40 V, -25 to 85 degC, 8-pin PDIP (P), Pb-Free (RoHS); Manufacturer: Texas Instruments; PartNumber: TL5001CP; Iout(Max)(A): 3; Regulated Outputs(#): 1; SubFamily: Buck-Boost, Inverting Switching Controller; Switching Frequency(Max)(kHz): 400; Synchronous Rectification: TRUE; Topology: Buck, Boost, Flyback"; Vin(Max)(V): 40; Vin(Min)(V): 3.6; Vout(Max)(V): 50; DatasheetVersion: SLVS084F; PackageVersion: revE, Apr-2010; PackageReference: P8; PackageDescription: 8-Pin Plastic Dual-In-Line Package, Row Spacing 7.62 mm, Pitch 2.54 mm; Supplier 1: Digi-Key; Supplier Part Number 1: 296-10205-5-ND; Eco-Plan: Pb-Free (RoHS); Vout(Min)(V): 1; Mounting Technology: Through Hole; Code_JEDEC: MS-001-BA; ComponentLink1Description: Datasheet; ComponentLink1URL: http://www.ti.com/general/docs/lit/getliterature.tsp?genericPartNumber=TL5001&fileType=pdf; ComponentLink2Description: Package Specification; ComponentLink2URL: http://www.ti.com/lit/ml/mpdi001b/mpdi001b.pdf
footprint P8 (DIP, 8-Leads, Row Spacing 7.62mm, Pitch 2.54mm, Body 9.6x6.4mm)
pins: 1 OUT (oc), 2 VCC (power), 3 COMP, 4 FB (in), 5 SCP (in), 6 DTC (in), 7 RT, 8 GND (power)

## TL5001CP-P
designator U?
PWM Controller with Wide Input Range, 3.6 to 40 V, 8-pin PDIP (P), Pb-Free (RoHS); Manufacturer: Texas Instruments; PartNumber: TL5001CP-P; Iout(Max)(A): 3; Regulated Outputs(#): 1; SubFamily: Buck-Boost, Inverting Switching Controller; Switching Frequency(Max)(kHz): 400; Synchronous Rectification: TRUE; Topology: Buck, Boost, Flyback"; Vin(Max)(V): 40; Vin(Min)(V): 3.6; Vout(Max)(V): 50; DatasheetVersion: SLVS084F; PackageVersion: revE, Apr-2010; PackageReference: P8; PackageDescription: 8-Pin Plastic Dual-In-Line Package, Row Spacing 7.62 mm, Pitch 2.54 mm; Supplier 1: Digi-Key; Supplier Part Number 1: TL5001CP-P-ND; Eco-Plan: Pb-Free (RoHS); Vout(Min)(V): 1; Mounting Technology: Through Hole; Code_JEDEC: MS-001-BA; ComponentLink1Description: Datasheet; ComponentLink1URL: http://www.ti.com/general/docs/lit/getliterature.tsp?genericPartNumber=TL5001&fileType=pdf; ComponentLink2Description: Package Specification; ComponentLink2URL: http://www.ti.com/lit/ml/mpdi001b/mpdi001b.pdf
footprint P8 (DIP, 8-Leads, Row Spacing 7.62mm, Pitch 2.54mm, Body 9.6x6.4mm)
pins: 1 OUT (oc), 2 VCC (power), 3 COMP, 4 FB (in), 5 SCP (in), 6 DTC (in), 7 RT, 8 GND (power)

## TL5001CP-PE4
designator U?
PWM Controller with Wide Input Range, 3.6 to 40 V, 8-pin PDIP (P), Pb-Free (RoHS); Manufacturer: Texas Instruments; PartNumber: TL5001CP-PE4; Iout(Max)(A): 3; Regulated Outputs(#): 1; SubFamily: Buck-Boost, Inverting Switching Controller; Switching Frequency(Max)(kHz): 400; Synchronous Rectification: TRUE; Topology: Buck, Boost, Flyback"; Vin(Max)(V): 40; Vin(Min)(V): 3.6; Vout(Max)(V): 50; DatasheetVersion: SLVS084F; PackageVersion: revE, Apr-2010; PackageReference: P8; PackageDescription: 8-Pin Plastic Dual-In-Line Package, Row Spacing 7.62 mm, Pitch 2.54 mm; Supplier 1: Digi-Key; Supplier Part Number 1: TL5001CP-PE4-ND; Eco-Plan: Pb-Free (RoHS); Vout(Min)(V): 1; Mounting Technology: Through Hole; Code_JEDEC: MS-001-BA; ComponentLink1Description: Datasheet; ComponentLink1URL: http://www.ti.com/general/docs/lit/getliterature.tsp?genericPartNumber=TL5001&fileType=pdf; ComponentLink2Description: Package Specification; ComponentLink2URL: http://www.ti.com/lit/ml/mpdi001b/mpdi001b.pdf
footprint P8 (DIP, 8-Leads, Row Spacing 7.62mm, Pitch 2.54mm, Body 9.6x6.4mm)
pins: 1 OUT (oc), 2 VCC (power), 3 COMP, 4 FB (in), 5 SCP (in), 6 DTC (in), 7 RT, 8 GND (power)

## TL5001CPE4
designator U?
PWM Controller with Wide Input Range, 3.6 to 40 V, -25 to 85 degC, 8-pin PDIP (P), Pb-Free (RoHS); Manufacturer: Texas Instruments; PartNumber: TL5001CPE4; Iout(Max)(A): 3; Regulated Outputs(#): 1; SubFamily: Buck-Boost, Inverting Switching Controller; Switching Frequency(Max)(kHz): 400; Synchronous Rectification: TRUE; Topology: Buck, Boost, Flyback"; Vin(Max)(V): 40; Vin(Min)(V): 3.6; Vout(Max)(V): 50; DatasheetVersion: SLVS084F; PackageVersion: revE, Apr-2010; PackageReference: P8; PackageDescription: 8-Pin Plastic Dual-In-Line Package, Row Spacing 7.62 mm, Pitch 2.54 mm; Supplier 1: Digi-Key; Supplier Part Number 1: TL5001CPE4-ND; Eco-Plan: Pb-Free (RoHS); Vout(Min)(V): 1; Mounting Technology: Through Hole; Code_JEDEC: MS-001-BA; ComponentLink1Description: Datasheet; ComponentLink1URL: http://www.ti.com/general/docs/lit/getliterature.tsp?genericPartNumber=TL5001&fileType=pdf; ComponentLink2Description: Package Specification; ComponentLink2URL: http://www.ti.com/lit/ml/mpdi001b/mpdi001b.pdf
footprint P8 (DIP, 8-Leads, Row Spacing 7.62mm, Pitch 2.54mm, Body 9.6x6.4mm)
pins: 1 OUT (oc), 2 VCC (power), 3 COMP, 4 FB (in), 5 SCP (in), 6 DTC (in), 7 RT, 8 GND (power)

## TL5001CPS
designator U?
PWM Controller with Wide Input Range, 3.6 to 40 V, 8-pin SO (PS), Green (RoHS & no Sb/Br); Manufacturer: Texas Instruments; PartNumber: TL5001CPS; Iout(Max)(A): 3; Regulated Outputs(#): 1; SubFamily: Buck-Boost, Inverting Switching Controller; Switching Frequency(Max)(kHz): 400; Synchronous Rectification: TRUE; Topology: Buck, Boost, Flyback"; Vin(Max)(V): 40; Vin(Min)(V): 3.6; Vout(Max)(V): 50; DatasheetVersion: SLVS084F; PackageVersion: revC, Mar-2003; PackageReference: PS8; PackageDescription: 8-Pin Plastic Small Outline Package, 6.2 x 5.3 mm, Pitch 1.27 mm Pitch; Supplier 1: Digi-Key; Supplier Part Number 1: TL5001CPS-ND; Eco-Plan: Green (RoHS & no Sb/Br); Vout(Min)(V): 1; Mounting Technology: Surface Mount; ComponentLink1Description: Datasheet; ComponentLink1URL: http://www.ti.com/general/docs/lit/getliterature.tsp?genericPartNumber=TL5001&fileType=pdf; ComponentLink2Description: Package Specification; ComponentLink2URL: http://www.ti.com/litv/pdf/msop001a
footprint PS8_N (SOP, 8-Leads, Body 6.2x5.3mm, Pitch 1.27mm, IPC Medium Density)
footprint PS8_L (SOP, 8-Leads, Body 6.2x5.3mm, Pitch 1.27mm, IPC High Density)
footprint PS8_M (SOP, 8-Leads, Body 6.2x5.3mm, Pitch 1.27mm, IPC Low Density)
pins: 1 OUT (oc), 2 VCC (power), 3 COMP, 4 FB (in), 5 SCP (in), 6 DTC (in), 7 RT, 8 GND (power)

## TL5001CPSG4
designator U?
PWM Controller with Wide Input Range, 3.6 to 40 V, 8-pin SO (PS), Green (RoHS & no Sb/Br); Manufacturer: Texas Instruments; PartNumber: TL5001CPSG4; Iout(Max)(A): 3; Regulated Outputs(#): 1; SubFamily: Buck-Boost, Inverting Switching Controller; Switching Frequency(Max)(kHz): 400; Synchronous Rectification: TRUE; Topology: Buck, Boost, Flyback"; Vin(Max)(V): 40; Vin(Min)(V): 3.6; Vout(Max)(V): 50; DatasheetVersion: SLVS084F; PackageVersion: revC, Mar-2003; PackageReference: PS8; PackageDescription: 8-Pin Plastic Small Outline Package, 6.2 x 5.3 mm, Pitch 1.27 mm Pitch; Supplier 1: Digi-Key; Supplier Part Number 1: TL5001CPSG4-ND; Eco-Plan: Green (RoHS & no Sb/Br); Vout(Min)(V): 1; Mounting Technology: Surface Mount; ComponentLink1Description: Datasheet; ComponentLink1URL: http://www.ti.com/general/docs/lit/getliterature.tsp?genericPartNumber=TL5001&fileType=pdf; ComponentLink2Description: Package Specification; ComponentLink2URL: http://www.ti.com/litv/pdf/msop001a
footprint PS8_N (SOP, 8-Leads, Body 6.2x5.3mm, Pitch 1.27mm, IPC Medium Density)
footprint PS8_L (SOP, 8-Leads, Body 6.2x5.3mm, Pitch 1.27mm, IPC High Density)
footprint PS8_M (SOP, 8-Leads, Body 6.2x5.3mm, Pitch 1.27mm, IPC Low Density)
pins: 1 OUT (oc), 2 VCC (power), 3 COMP, 4 FB (in), 5 SCP (in), 6 DTC (in), 7 RT, 8 GND (power)

## TL5001CPSR
designator U?
PWM Controller with Wide Input Range, 3.6 to 40 V, -25 to 85 degC, 8-pin SO (PS), Green (RoHS & no Sb/Br); Manufacturer: Texas Instruments; PartNumber: TL5001CPSR; Iout(Max)(A): 3; Regulated Outputs(#): 1; SubFamily: Buck-Boost, Inverting Switching Controller; Switching Frequency(Max)(kHz): 400; Synchronous Rectification: TRUE; Topology: Buck, Boost, Flyback"; Vin(Max)(V): 40; Vin(Min)(V): 3.6; Vout(Max)(V): 50; DatasheetVersion: SLVS084F; PackageVersion: revC, Mar-2003; PackageReference: PS8; PackageDescription: 8-Pin Plastic Small Outline Package, 6.2 x 5.3 mm, Pitch 1.27 mm Pitch; Supplier 1: Digi-Key; Supplier Part Number 1: 296-10206-2-ND; Eco-Plan: Green (RoHS & no Sb/Br); Vout(Min)(V): 1; Mounting Technology: Surface Mount; ComponentLink1Description: Datasheet; ComponentLink1URL: http://www.ti.com/general/docs/lit/getliterature.tsp?genericPartNumber=TL5001&fileType=pdf; ComponentLink2Description: Package Specification; ComponentLink2URL: http://www.ti.com/litv/pdf/msop001a
footprint PS8_N (SOP, 8-Leads, Body 6.2x5.3mm, Pitch 1.27mm, IPC Medium Density)
footprint PS8_L (SOP, 8-Leads, Body 6.2x5.3mm, Pitch 1.27mm, IPC High Density)
footprint PS8_M (SOP, 8-Leads, Body 6.2x5.3mm, Pitch 1.27mm, IPC Low Density)
pins: 1 OUT (oc), 2 VCC (power), 3 COMP, 4 FB (in), 5 SCP (in), 6 DTC (in), 7 RT, 8 GND (power)

## TL5001CPSRG4
designator U?
PWM Controller with Wide Input Range, 3.6 to 40 V, -25 to 85 degC, 8-pin SO (PS), Green (RoHS & no Sb/Br); Manufacturer: Texas Instruments; PartNumber: TL5001CPSRG4; Iout(Max)(A): 3; Regulated Outputs(#): 1; SubFamily: Buck-Boost, Inverting Switching Controller; Switching Frequency(Max)(kHz): 400; Synchronous Rectification: TRUE; Topology: Buck, Boost, Flyback"; Vin(Max)(V): 40; Vin(Min)(V): 3.6; Vout(Max)(V): 50; DatasheetVersion: SLVS084F; PackageVersion: revC, Mar-2003; PackageReference: PS8; PackageDescription: 8-Pin Plastic Small Outline Package, 6.2 x 5.3 mm, Pitch 1.27 mm Pitch; Supplier 1: Digi-Key; Supplier Part Number 1: TL5001CPSRG4-ND; Eco-Plan: Green (RoHS & no Sb/Br); Vout(Min)(V): 1; Mounting Technology: Surface Mount; ComponentLink1Description: Datasheet; ComponentLink1URL: http://www.ti.com/general/docs/lit/getliterature.tsp?genericPartNumber=TL5001&fileType=pdf; ComponentLink2Description: Package Specification; ComponentLink2URL: http://www.ti.com/litv/pdf/msop001a
footprint PS8_N (SOP, 8-Leads, Body 6.2x5.3mm, Pitch 1.27mm, IPC Medium Density)
footprint PS8_L (SOP, 8-Leads, Body 6.2x5.3mm, Pitch 1.27mm, IPC High Density)
footprint PS8_M (SOP, 8-Leads, Body 6.2x5.3mm, Pitch 1.27mm, IPC Low Density)
pins: 1 OUT (oc), 2 VCC (power), 3 COMP, 4 FB (in), 5 SCP (in), 6 DTC (in), 7 RT, 8 GND (power)

## TL5001ID
designator U?
PWM Controller with Wide Input Range, 3.6 to 40 V, -40 to 85 degC, 8-pin SOIC (D), Green (RoHS & no Sb/Br); Manufacturer: Texas Instruments; PartNumber: TL5001ID; Iout(Max)(A): 3; Regulated Outputs(#): 1; SubFamily: Buck-Boost, Inverting Switching Controller; Switching Frequency(Max)(kHz): 400; Synchronous Rectification: TRUE; Topology: Buck, Boost, Flyback"; Vin(Max)(V): 40; Vin(Min)(V): 3.6; Vout(Max)(V): 50; DatasheetVersion: SLVS084F; PackageVersion: revM, Jun-2011; PackageReference: D8; PackageDescription: 8-Pin Plastic Small Outline Integrated Circuit, 4.9 x 3.9 mm, Pitch 1.27 mm Pitch; Supplier 1: Digi-Key; Supplier Part Number 1: 296-10214-5-ND; Eco-Plan: Green (RoHS & no Sb/Br); Vout(Min)(V): 1; Mounting Technology: Surface Mount; Code_JEDEC: MS-012AA; ComponentLink1Description: Datasheet; ComponentLink1URL: http://www.ti.com/general/docs/lit/getliterature.tsp?genericPartNumber=TL5001&fileType=pdf; ComponentLink2Description: Package Specification; ComponentLink2URL: http://www.ti.com/litv/pdf/msoi002j
footprint D8_N (SOIC, 8-Leads, Body 4.9x3.9mm, Pitch 1.27mm, IPC Medium Density)
footprint D8_L (SOIC, 8-Leads, Body 4.9x3.9mm, Pitch 1.27mm, IPC High Density)
footprint D8_M (SOIC, 8-Leads, Body 4.9x3.9mm, Pitch 1.27mm, IPC Low Density)
pins: 1 OUT (oc), 2 VCC (power), 3 COMP (out), 4 FB (in), 5 SCP (in), 6 DTC (in), 7 RT, 8 GND (power)

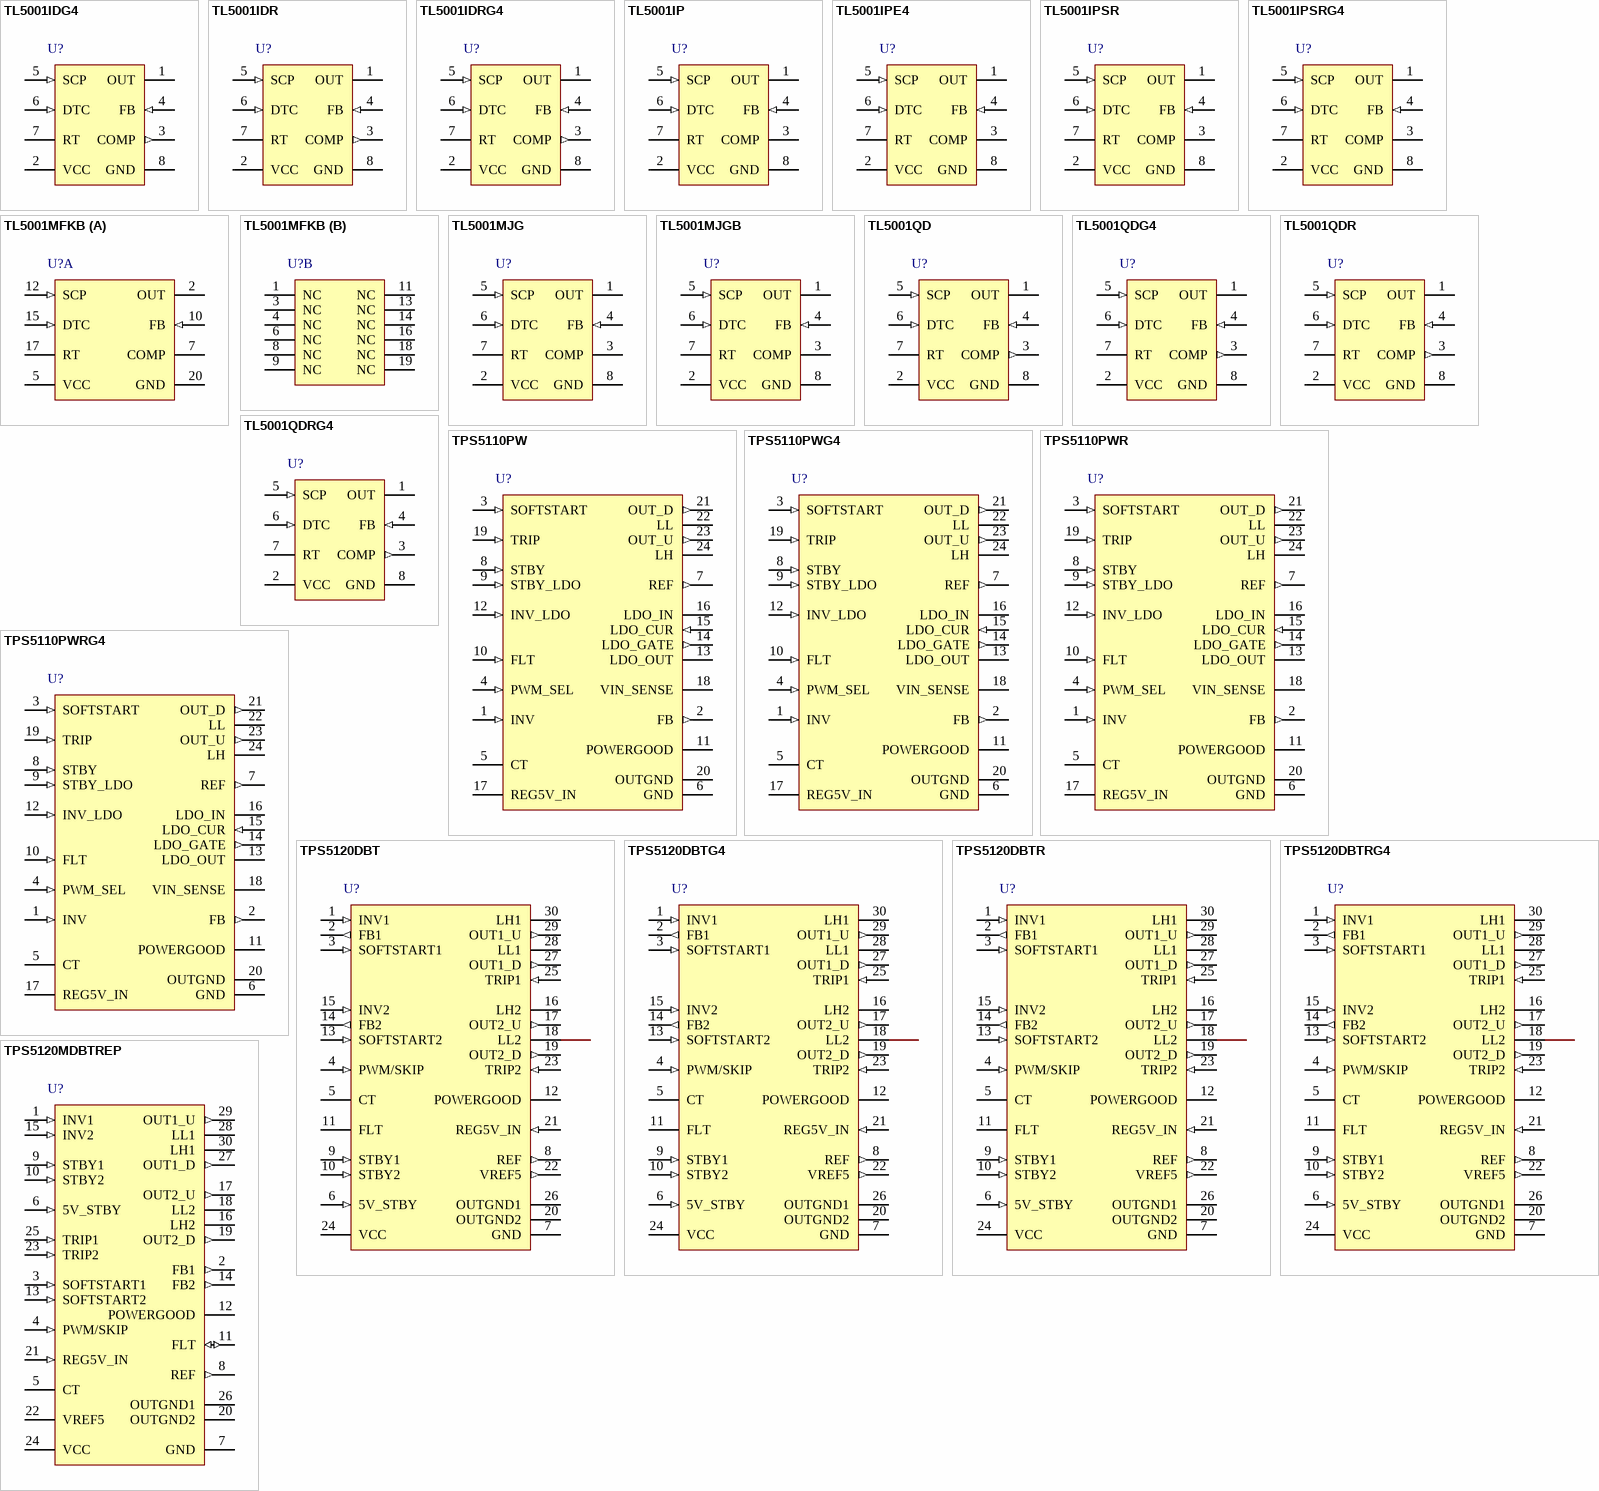
[diagram p2: symbols TL5001IDG4 to TPS5120MDBTREP]

## TL5001IDG4
designator U?
PWM Controller with Wide Input Range, 3.6 to 40 V, -40 to 85 degC, 8-pin SOIC (D), Green (RoHS & no Sb/Br); Manufacturer: Texas Instruments; PartNumber: TL5001IDG4; Iout(Max)(A): 3; Regulated Outputs(#): 1; SubFamily: Buck-Boost, Inverting Switching Controller; Switching Frequency(Max)(kHz): 400; Synchronous Rectification: TRUE; Topology: Buck, Boost, Flyback"; Vin(Max)(V): 40; Vin(Min)(V): 3.6; Vout(Max)(V): 50; DatasheetVersion: SLVS084F; PackageVersion: revM, Jun-2011; PackageReference: D8; PackageDescription: 8-Pin Plastic Small Outline Integrated Circuit, 4.9 x 3.9 mm, Pitch 1.27 mm Pitch; Supplier 1: Digi-Key; Supplier Part Number 1: TL5001IDG4-ND; Eco-Plan: Green (RoHS & no Sb/Br); Vout(Min)(V): 1; Mounting Technology: Surface Mount; Code_JEDEC: MS-012AA; ComponentLink1Description: Datasheet; ComponentLink1URL: http://www.ti.com/general/docs/lit/getliterature.tsp?genericPartNumber=TL5001&fileType=pdf; ComponentLink2Description: Package Specification; ComponentLink2URL: http://www.ti.com/litv/pdf/msoi002j
footprint D8_N (SOIC, 8-Leads, Body 4.9x3.9mm, Pitch 1.27mm, IPC Medium Density)
footprint D8_L (SOIC, 8-Leads, Body 4.9x3.9mm, Pitch 1.27mm, IPC High Density)
footprint D8_M (SOIC, 8-Leads, Body 4.9x3.9mm, Pitch 1.27mm, IPC Low Density)
pins: 1 OUT (oc), 2 VCC (power), 3 COMP (out), 4 FB (in), 5 SCP (in), 6 DTC (in), 7 RT, 8 GND (power)

## TL5001IDR
designator U?
PWM Controller with Wide Input Range, 3.6 to 40 V, -40 to 85 degC, 8-pin SOIC (D), Green (RoHS & no Sb/Br); Manufacturer: Texas Instruments; PartNumber: TL5001IDR; Iout(Max)(A): 3; Regulated Outputs(#): 1; SubFamily: Buck-Boost, Inverting Switching Controller; Switching Frequency(Max)(kHz): 400; Synchronous Rectification: TRUE; Topology: Buck, Boost, Flyback"; Vin(Max)(V): 40; Vin(Min)(V): 3.6; Vout(Max)(V): 50; DatasheetVersion: SLVS084F; PackageVersion: revM, Jun-2011; PackageReference: D8; PackageDescription: 8-Pin Plastic Small Outline Integrated Circuit, 4.9 x 3.9 mm, Pitch 1.27 mm Pitch; Supplier 1: Digi-Key; Supplier Part Number 1: TL5001IDR-ND; Eco-Plan: Green (RoHS & no Sb/Br); Vout(Min)(V): 1; Mounting Technology: Surface Mount; Code_JEDEC: MS-012AA; ComponentLink1Description: Datasheet; ComponentLink1URL: http://www.ti.com/general/docs/lit/getliterature.tsp?genericPartNumber=TL5001&fileType=pdf; ComponentLink2Description: Package Specification; ComponentLink2URL: http://www.ti.com/litv/pdf/msoi002j
footprint D8_N (SOIC, 8-Leads, Body 4.9x3.9mm, Pitch 1.27mm, IPC Medium Density)
footprint D8_L (SOIC, 8-Leads, Body 4.9x3.9mm, Pitch 1.27mm, IPC High Density)
footprint D8_M (SOIC, 8-Leads, Body 4.9x3.9mm, Pitch 1.27mm, IPC Low Density)
pins: 1 OUT (oc), 2 VCC (power), 3 COMP (out), 4 FB (in), 5 SCP (in), 6 DTC (in), 7 RT, 8 GND (power)